# EAGLE library part TLV62568 (library mastrogippo)
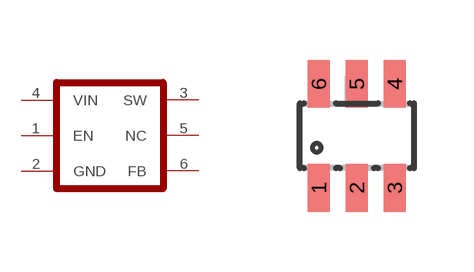
[diagram p16: symbol with the pads of SOT23-6; footprint SOT23-6]

Designator prefix -

## TLV62568  [SOT23-6]
1  EN
2  GND
3  SW
4  VIN
5  NC
6  FB

## Footprint SOT23-6 (pad centres in mm)
smd 0.55 x 1.2: 1 -0.95,-1.3; 2 0,-1.3; 3 0.95,-1.3; 4 0.95,1.3; 5 0,1.3; 6 -0.95,1.3